# Altium footprint library RPSLib_Transistors.PcbLib: 10 footprints
Each footprint in its own frame and in the unit in brackets; x right, y up, seen from the top. Pads: shape width x height; smd on the part's side, far side on the other; paste and mask are expansions set on the pad; w line width, h text height; cw(c..) or ccw(c..) is an arc to the next point about the centre after c.
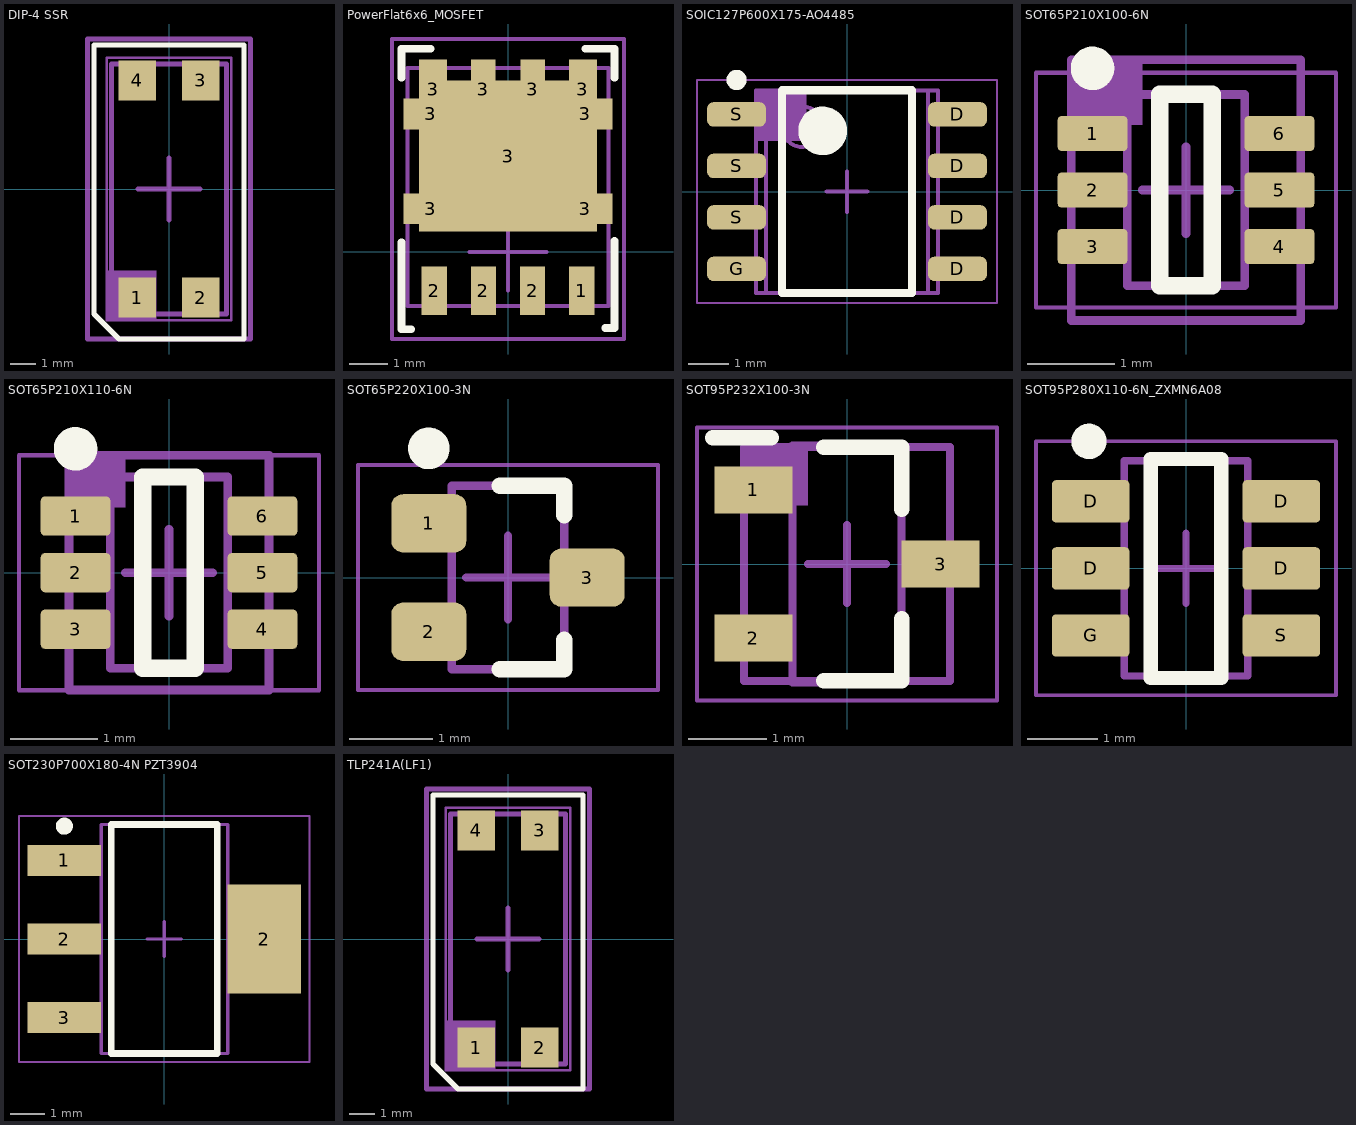
[diagram p0: the footprints below, top view; thin cyan lines are the x and y axes]

## DIP-4 SSR [mm] "DIP-4 Solid State relay"
height 3.8
pads (4):
  rect 1.5x1.6 smd: 1(-1.27,-4.35) 2(1.27,-4.35) 3(1.27,4.35) 4(-1.27,4.35)
Top Overlay:
  lines w0.2: -3,-5 -2,-6 3,-6 3,5.75 -3,5.75 -3,-5
Mechanical 1:
  rectangle: -2.5,-5.25 -0.5,-3.25
  lines w0.1: -2.5,-5.25 -2.5,5.25 2.5,5.25 2.5,-5.25 -2.5,-5.25
  text ".Designator" at -0.227,2.253 h1
Mechanical 13:
  lines w0.2: -2.3,-5 2.3,-5 2.3,5 -2.3,5 -2.3,-5
Mechanical 15:
  lines w0.2: -1.25,0 1.25,0 ; 0,-1.25 0,1.25 ; -3.25,-6 3.25,-6 3.25,6 -3.25,6 -3.25,-6
3D body "TLP241A_LF1.stp": height 3.8, standoff 0, extent -2.3,-5 2.3,5

## PowerFlat6x6_MOSFET [mm]
pads (13):
  rect 0.65x1.25 smd mask+0.07: 1(1.905,-1) 2(-1.905,-1) 2(-0.635,-1) 2(0.635,-1)
  rect 1.4x0.8 smd mask+0.07: 3(-2,1.115) 3(-2,3.565) 3(2,1.115) 3(2,3.565)
  rect 0.725x1.55 smd mask+0.07: 3(-1.937,4.2) 3(1.937,4.2)
  rect 0.625x1.55 smd mask+0.07: 3(-0.637,4.2) 3(0.637,4.2)
  rect 4.6x3.9 smd mask+0.07: 3(0,2.475)
Top Overlay:
  lines w0.2: -2.75,0.25 -2.75,-2 -2.5,-2 ; -2.75,4.5 -2.75,5.25 -2,5.25 ; 2,5.25 2.75,5.25 2.75,4.5 ; 2.512,-1.968 2.75,-1.968 2.75,0.282
Mechanical 13:
  lines w0.1: -2.6,-1.4 2.6,-1.4 2.6,4.75 -2.6,4.75 -2.6,-1.4
Mechanical 15:
  lines w0.1: -1,0 1,0 ; 0,-1 0,1 ; -3,-2.25 -3,5.5 3,5.5 3,-2.25 -3,-2.25
3D body "User Library-Power_Flat_5x6.step": height 0.95, standoff -0.04, extent -2.6,-1.4 2.6,4.75

## SOIC127P600X175-AO4485 [mm] "SOIC, 8-Leads, Body 4.90x3.90mm, Pitch 1.27mm, IPC Medium Density"
height 1.75
pads (8):
  rrect50% 1.45x0.6 smd: D(2.725,-1.905) D(2.725,-0.635) D(2.725,0.635) D(2.725,1.905) G(-2.725,-1.905) S(-2.725,-0.635) S(-2.725,0.635) S(-2.725,1.905)
Top Overlay:
  circle w0.25: c-2.725,2.755 r0.125
  circle w0.6: c-0.6,1.5 r0.3
  lines w0.2: -1.6,-2.5 -1.6,2.5 1.6,2.5 1.6,-2.5 -1.6,-2.5
Mechanical 1:
  rectangle: -2.25,1.25 -1,2.5
  lines w0.1: -2.25,-2.5 -2.25,2.5 2.25,2.5 2.25,-2.5 -2.25,-2.5
  text ".Designator" at -1.126,-0.113 h0.5
Mechanical 13:
  circle w0.1: c-1.1,1.6 r0.5
  lines w0.1: -2,-2.5 -2,2.5 2,2.5 2,-2.5 -2,-2.5
Mechanical 15:
  lines w0.05: -3.7,-2.75 -3.7,2.75 3.7,2.75 3.7,-2.75 -3.7,-2.75
  lines w0.1: -0.5,0 0.5,0 ; 0,-0.5 0,0.5
3D body "SOIC127P600X175-8N.step": height 1.75, standoff 0, extent -3,-2.5 3,2.5

## SOT65P210X100-6N [mm] "SOT23, 6-Leads, Body 2,00x2,10mm, Pitch 0,65mm, IPC Medium Density"
height 1
pads (6):
  rrect20% 0.8x0.4 smd mask+0.07: 1(-1.075,0.65) 2(-1.075,0) 3(-1.075,-0.65) 4(1.075,-0.65) 5(1.075,0) 6(1.075,0.65)
Top Overlay:
  circle w0.25: c-1.075,1.4 r0.125
  lines w0.2: -0.3,-1.1 0.3,-1.1 0.3,1.1 -0.3,1.1 -0.3,-1.1
Mechanical 1:
  rectangle: -1.32,0.75 -0.5,1.5
  lines w0.1: -1.32,-1.5 -1.32,1.5 1.32,1.5 1.32,-1.5 -1.32,-1.5
  text ".Designator" at -0.113,1.126 h0.5
Mechanical 13:
  lines w0.1: -0.675,-1.1 -0.675,1.1 0.675,1.1 0.675,-1.1 -0.675,-1.1
Mechanical 15:
  lines w0.05: -1.725,-1.35 -1.725,1.35 1.725,1.35 1.725,-1.35 -1.725,-1.35
  lines w0.1: -0.5,0 0.5,0 ; 0,-0.5 0,0.5
3D body "SOT65P210X100-6N.step": height 1, standoff 0, extent -1.1,-1.1 1.1,1.1

## SOT65P210X110-6N [mm] "SOT23, 6-Leads, Body 2,00x2,10mm, Pitch 0,65mm, IPC Medium Density"
height 1.1
pads (6):
  rrect20% 0.8x0.45 smd mask+0.07: 1(-1.075,0.65) 2(-1.075,0) 3(-1.075,-0.65) 4(1.075,-0.65) 5(1.075,0) 6(1.075,0.65)
Top Overlay:
  circle w0.25: c-1.075,1.425 r0.125
  lines w0.2: -0.3,-1.1 0.3,-1.1 0.3,1.1 -0.3,1.1 -0.3,-1.1
Mechanical 1:
  rectangle: -1.15,0.75 -0.5,1.35
  lines w0.1: -1.15,-1.35 1.15,-1.35 1.15,1.35 -1.15,1.35 -1.15,-1.35
  text ".Designator" at -0.113,1.126 h0.5
Mechanical 13:
  lines w0.1: -0.675,-1.1 -0.675,1.1 0.675,1.1 0.675,-1.1 -0.675,-1.1
Mechanical 15:
  lines w0.05: -1.725,-1.35 -1.725,1.35 1.725,1.35 1.725,-1.35 -1.725,-1.35
  lines w0.1: -0.5,0 0.5,0 ; 0,-0.5 0,0.5
3D body "SOT65P210X110-6N.step": height 1.1, standoff 0, extent -1.15,-1.1 1.15,1.1

## SOT65P220X100-3N [mm] "SOT23, 3-Leads, Body 2,00x2,20mm, Pitch 0,65mm, IPC Medium Density"
height 1
pads (3):
  rrect40% 0.9x0.7 smd mask+0.07: 1(-0.95,0.65) 2(-0.95,-0.65) 3(0.95,0)
Top Overlay:
  circle w0.25: c-0.95,1.55 r0.125
  lines w0.2: -0.1,-1.1 0.675,-1.1 0.675,-0.75 ; -0.1,1.1 0.675,1.1 0.675,0.75
Mechanical 13:
  lines w0.1: -0.675,-1.1 -0.675,1.1 0.675,1.1 0.675,-1.1 -0.675,-1.1
Mechanical 15:
  lines w0.05: -1.8,-1.35 -1.8,1.35 1.8,1.35 1.8,-1.35 -1.8,-1.35
  lines w0.1: -0.5,0 0.5,0 ; 0,-0.5 0,0.5
3D body "SOT65P220X100-3N.step": height 1, standoff 0, extent -1.2,-1.1 1.2,1.1

## SOT95P232X100-3N [mm] "SOT23, 3-Leads, Body 2.92x2.32mm, Pitch 0.95mm, IPC Medium Density"
height 1
pads (3):
  rect 1x0.6 smd paste-0.03: 1(-1.2,0.95) 2(-1.2,-0.95) 3(1.2,0)
Top Overlay:
  lines w0.2: -1.721,1.622 -0.971,1.622 ; -0.3,-1.5 0.7,-1.5 0.7,-0.7 ; -0.3,1.5 0.7,1.5 0.7,0.7
Mechanical 1:
  rectangle: -1.32,0.75 -0.5,1.5
  lines w0.1: -1.32,-1.5 -1.32,1.5 1.32,1.5 1.32,-1.5 -1.32,-1.5
  text ".Designator" at -0.113,1.126 h0.5
Mechanical 13:
  lines w0.1: -0.7,-1.52 -0.7,1.52 0.7,1.52 0.7,-1.52 -0.7,-1.52
Mechanical 15:
  lines w0.05: -1.925,-1.75 -1.925,1.75 1.925,1.75 1.925,-1.75 -1.925,-1.75
  lines w0.1: -0.5,0 0.5,0 ; 0,-0.5 0,0.5
3D body "SOT95P232X100-3N.step": height 1, standoff 0, extent -1.32,-1.52 1.32,1.52

## SOT95P280X110-6N_ZXMN6A08 [mm] "SOT23, 6-Leads, Body 2,90x2,80mm, Pitch 0,95mm, IPC Medium Density"
height 1.1
pads (6):
  rrect20% 1.1x0.6 smd mask+0.07: D(-1.35,0) D(-1.35,0.95) D(1.35,0) D(1.35,0.95) G(-1.35,-0.95) S(1.35,-0.95)
Top Overlay:
  circle w0.25: c-1.375,1.8 r0.125
  lines w0.2: -0.5,-1.55 0.5,-1.55 0.5,1.55 -0.5,1.55 -0.5,-1.55
Mechanical 13:
  lines w0.1: -0.875,-1.525 -0.875,1.525 0.875,1.525 0.875,-1.525 -0.875,-1.525
Mechanical 15:
  lines w0.05: -2.125,-1.8 -2.125,1.8 2.125,1.8 2.125,-1.8 -2.125,-1.8
  lines w0.1: -0.5,0 0.5,0 ; 0,-0.5 0,0.5
3D body "SOT95P280X110-6N.step": height 1.1, standoff 0, extent -1.525,-1.525 1.525,1.525

## SOT230P700X180-4N PZT3904 [mm] "SOT223, 4-Leads, Body 6,50x7,00mm (avg), Pitch 2,30mm, IPC Medium Density"
height 1.8
pads (4):
  rect 2.15x0.9 smd: 1(-2.925,2.3) 2(-2.925,0) 3(-2.925,-2.3)
  rect 2.15x3.2 smd: 2(2.925,0)
Top Overlay:
  circle w0.25: c-2.925,3.3 r0.125
  lines w0.2: -1.55,-3.35 -1.55,3.35 1.55,3.35 1.55,-3.35 -1.55,-3.35
Mechanical 13:
  lines w0.1: -1.85,-3.35 -1.85,3.35 1.85,3.35 1.85,-3.35 -1.85,-3.35
Mechanical 15:
  lines w0.05: -4.25,-3.6 -4.25,3.6 4.25,3.6 4.25,-3.6 -4.25,-3.6
  lines w0.1: -0.5,0 0.5,0 ; 0,-0.5 0,0.5
3D body "SOT230P700X180-4N.step": height 1.8, standoff 0, extent -3.5,-3.35 3.5,3.35

## TLP241A(LF1) [mm] "DIP-4 Solid State relay"
height 3.8
pads (4):
  rect 1.5x1.6 smd: 1(-1.27,-4.35) 2(1.27,-4.35) 3(1.27,4.35) 4(-1.27,4.35)
Top Overlay:
  lines w0.2: -3,-5 -3,5.75 3,5.75 3,-6 -2,-6 -3,-5
Mechanical 1:
  rectangle: -2.5,-5.25 -0.5,-3.25
  lines w0.1: -2.5,-5.25 2.5,-5.25 2.5,5.25 -2.5,5.25 -2.5,-5.25
  text ".Designator" at -0.227,2.253 h1
Mechanical 13:
  lines w0.2: -2.3,-5 -2.3,5 2.3,5 2.3,-5 -2.3,-5
Mechanical 15:
  lines w0.2: -1.25,0 1.25,0 ; 0,-1.25 0,1.25 ; -3.25,-6 -3.25,6 3.25,6 3.25,-6 -3.25,-6
3D body "TLP241A_LF1.stp": height 3.8, standoff 0, extent -2.3,-5 2.3,5